# Altium footprint library Transformers.PcbLib: 1 footprints
Each footprint in its own frame and in the unit in brackets; x right, y up, seen from the top. Pads: shape width x height; smd on the part's side, far side on the other; paste and mask are expansions set on the pad; w line width, h text height; cw(c..) or ccw(c..) is an arc to the next point about the centre after c.
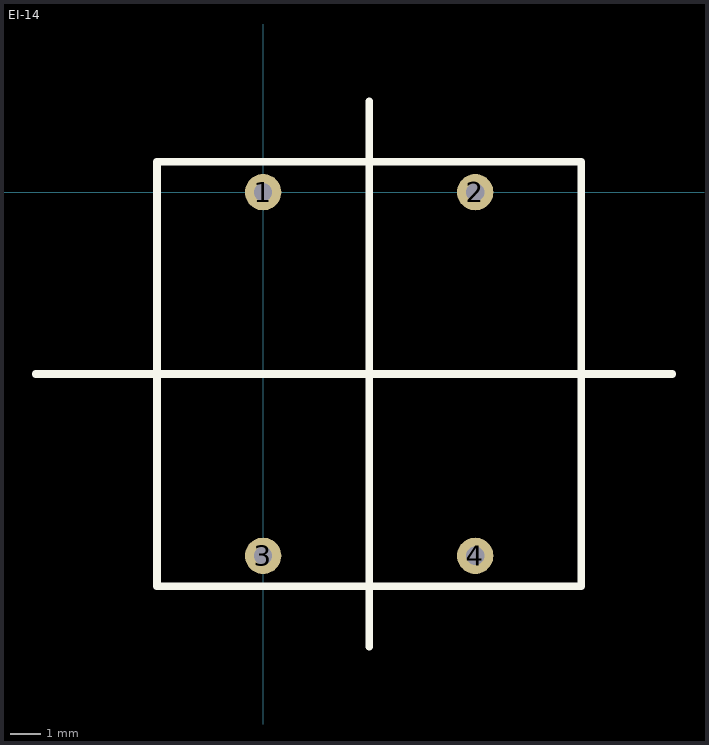
[diagram p0: the footprint, top view; thin cyan lines are the x and y axes]

## EI-14 [mm]
pads (4):
  round 1.2 hole 0.6: 1(0,0) 2(7,0) 3(0,-12) 4(7,-12)
Top Overlay:
  lines w0.254: -7.5,-6 13.5,-6 ; 3.5,-15 3.5,3 ; -3.5,-13 -3.5,1 10.5,1 10.5,-13 -3.5,-13
3D body: height 12, standoff 0, extent -3.5,-13 10.5,1